# EAGLE library part MALE_2X30 (library be_con_jump)
male connector device 2x30 drawn: Mario Blunk / Blunk electronic
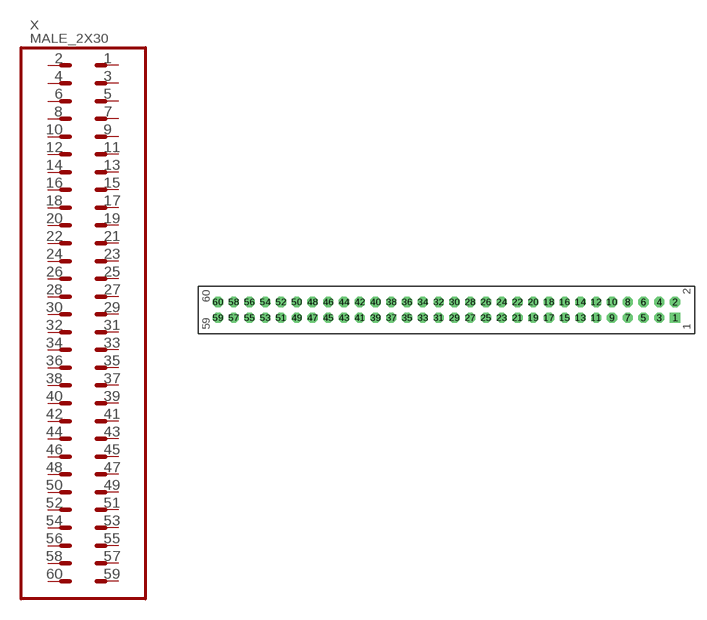
[diagram p1: symbol with the pads of T_MALE_2X30_VERTICAL_GRID_2MM; footprint T_MALE_2X30_VERTICAL_GRID_2MM]

Designator prefix X

## MALE_2X30-T-VERTICAL (BOM: YES; COMMISSIONED: 2013-08-30; PART_CODE_BEL: X_PAC_T_MALE_2X30_VERTICAL)  [T_MALE_2X30_VERTICAL_GRID_2MM]
1  1  pas
2  2  pas
3  3  pas
4  4  pas
5  5  pas
6  6  pas
7  7  pas
8  8  pas
9  9  pas
10  10  pas
11  11  pas
12  12  pas
13  13  pas
14  14  pas
15  15  pas
16  16  pas
17  17  pas
18  18  pas
19  19  pas
20  20  pas
21  21  pas
22  22  pas
23  23  pas
24  24  pas
25  25  pas
26  26  pas
27  27  pas
28  28  pas
29  29  pas
30  30  pas
31  31  pas
32  32  pas
33  33  pas
34  34  pas
35  35  pas
36  36  pas
37  37  pas
38  38  pas
39  39  pas
40  40  pas
41  41  pas
42  42  pas
43  43  pas
44  44  pas
45  45  pas
46  46  pas
47  47  pas
48  48  pas
49  49  pas
50  50  pas
51  51  pas
52  52  pas
53  53  pas
54  54  pas
55  55  pas
56  56  pas
57  57  pas
58  58  pas
59  59  pas
60  60  pas

## Footprint T_MALE_2X30_VERTICAL_GRID_2MM (pad centres in mm)
male package 2x30 edited: Mario Blunk / Blunk electronic date: 2013-03-29
drill 0.7 pad 1.3 square: 1 29,-1
drill 0.7 pad 1.3 octagon: 2 29,1; 3 27,-1; 4 27,1; 5 25,-1; 6 25,1; 7 23,-1; 8 23,1; 9 21,-1; 10 21,1; 11 19,-1; 12 19,1; 13 17,-1; 14 17,1; 15 15,-1; 16 15,1; 17 13,-1; 18 13,1; 19 11,-1; 20 11,1; 21 9,-1; 22 9,1; 23 7,-1; 24 7,1; 25 5,-1; 26 5,1; 27 3,-1; 28 3,1; 29 1,-1; 30 1,1; 31 -1,-1; 32 -1,1; 33 -3,-1; 34 -3,1; 35 -5,-1; 36 -5,1; 37 -7,-1; 38 -7,1; 39 -9,-1; 40 -9,1; 41 -11,-1; 42 -11,1; 43 -13,-1; 44 -13,1; 45 -15,-1; 46 -15,1; 47 -17,-1; 48 -17,1; 49 -19,-1; 50 -19,1; 51 -21,-1; 52 -21,1; 53 -23,-1; 54 -23,1; 55 -25,-1; 56 -25,1; 57 -27,-1; 58 -27,1; 59 -29,-1; 60 -29,1